# EAGLE library part 5584ИЕ10 (library std-logic-5584series)
АЕЯР.431200.209 ТУ 5584ИЕ10У, 5584ИЕ10АУ - Четырехразрядный двоичный счетчик с асинхронной установкой в состояние "Логический 0".
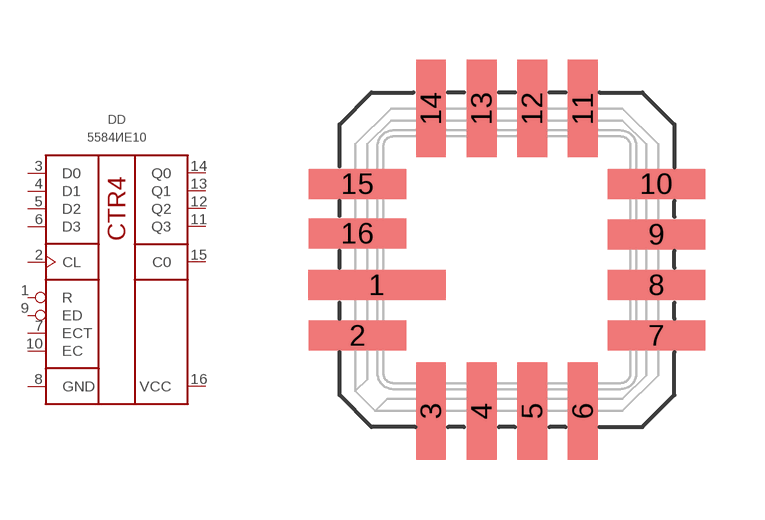
[diagram p7: symbol with the pads of 5119.16-А; footprint 5119.16-А]

Designator prefix DD

## 5584ИЕ10У  [5119.16-А]
1  R  in
2  CL  in
3  D0  in
4  D1  in
5  D2  in
6  D3  in
7  ECT  in
8  GND  pwr
9  ED  in
10  EC  in
11  Q3  in
12  Q2  in
13  Q1  in
14  Q0  in
15  C0  in
16  VCC  pwr

## 5584ИЕ10АУ  [5119.16-А]
Pads as for 5119.16-А

## Footprint 5119.16-А (pad centres in mm)
smd 3.45 x 0.75: 1 -3.26,-0.635
smd 2.45 x 0.75: 2 -3.75,-1.905; 7 3.75,-1.905; 8 3.75,-0.635; 9 3.75,0.635; 10 3.75,1.905; 15 -3.75,1.905; 16 -3.75,0.66
smd 0.75 x 2.45: 3 -1.905,-3.8; 4 -0.635,-3.8; 5 0.635,-3.8; 6 1.905,-3.8; 11 1.905,3.8; 12 0.635,3.8; 13 -0.635,3.8; 14 -1.905,3.8